# Altium schematic symbol library SCH - ARM CORTEX - STM STM8L151K2Ux.SchLib: 1 symbol
Pins are listed as number, name and electrical type; pins without a type are passive.

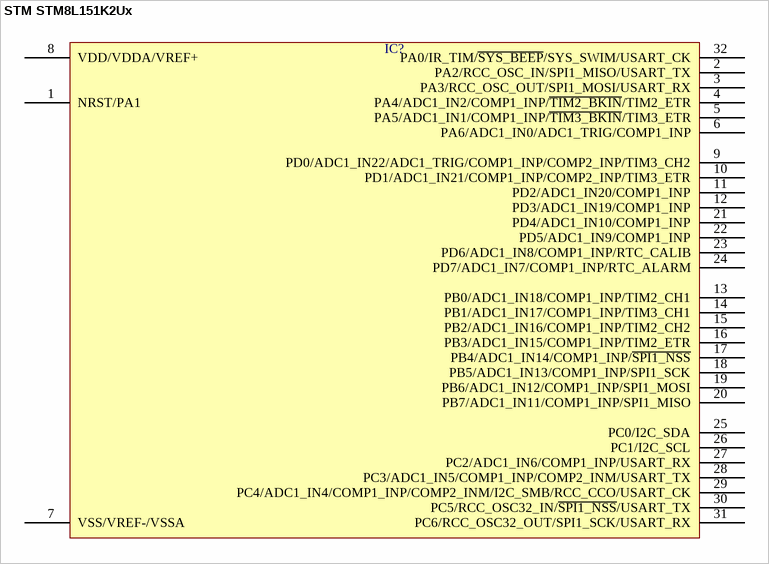
[diagram p0: symbol STM STM8L151K2Ux]

## STM STM8L151K2Ux
designator IC?  (value not drawn)
pins: 1 NRST/PA1, 2 PA2/RCC_OSC_IN/SPI1_MISO/USART_TX, 3 PA3/RCC_OSC_OUT/SPI1_MOSI/USART_RX, 4 PA4/ADC1_IN2/COMP1_INP/~{TIM2_BKIN}/TIM2_ETR, 5 PA5/ADC1_IN1/COMP1_INP/~{TIM3_BKIN}/TIM3_ETR, 6 PA6/ADC1_IN0/ADC1_TRIG/COMP1_INP, 7 VSS/VREF-/VSSA, 8 VDD/VDDA/VREF+, 9 PD0/ADC1_IN22/ADC1_TRIG/COMP1_INP/COMP2_INP/TIM3_CH2, 10 PD1/ADC1_IN21/COMP1_INP/COMP2_INP/TIM3_ETR, 11 PD2/ADC1_IN20/COMP1_INP, 12 PD3/ADC1_IN19/COMP1_INP, 13 PB0/ADC1_IN18/COMP1_INP/TIM2_CH1, 14 PB1/ADC1_IN17/COMP1_INP/TIM3_CH1, 15 PB2/ADC1_IN16/COMP1_INP/TIM2_CH2, 16 PB3/ADC1_IN15/COMP1_INP/TIM2_ETR, 17 PB4/ADC1_IN14/COMP1_INP/~{SPI1_NSS}, 18 PB5/ADC1_IN13/COMP1_INP/SPI1_SCK, 19 PB6/ADC1_IN12/COMP1_INP/SPI1_MOSI, 20 PB7/ADC1_IN11/COMP1_INP/SPI1_MISO, 21 PD4/ADC1_IN10/COMP1_INP, 22 PD5/ADC1_IN9/COMP1_INP, 23 PD6/ADC1_IN8/COMP1_INP/RTC_CALIB, 24 PD7/ADC1_IN7/COMP1_INP/RTC_ALARM, 25 PC0/I2C_SDA, 26 PC1/I2C_SCL, 27 PC2/ADC1_IN6/COMP1_INP/USART_RX, 28 PC3/ADC1_IN5/COMP1_INP/COMP2_INM/USART_TX, 29 PC4/ADC1_IN4/COMP1_INP/COMP2_INM/I2C_SMB/RCC_CCO/USART_CK, 30 PC5/RCC_OSC32_IN/~{SPI1_NSS}/USART_TX, 31 PC6/RCC_OSC32_OUT/SPI1_SCK/USART_RX, 32 PA0/IR_TIM/~{SYS_BEEP}/SYS_SWIM/USART_CK